# Altium footprint library GD_Power_Meter_Draft.PcbLib: 23 footprints (part 1 of 2)
Each footprint in its own frame and in the unit in brackets; x right, y up, seen from the top. Pads: shape width x height; smd on the part's side, far side on the other; paste and mask are expansions set on the pad; w line width, h text height; cw(c..) or ccw(c..) is an arc to the next point about the centre after c.
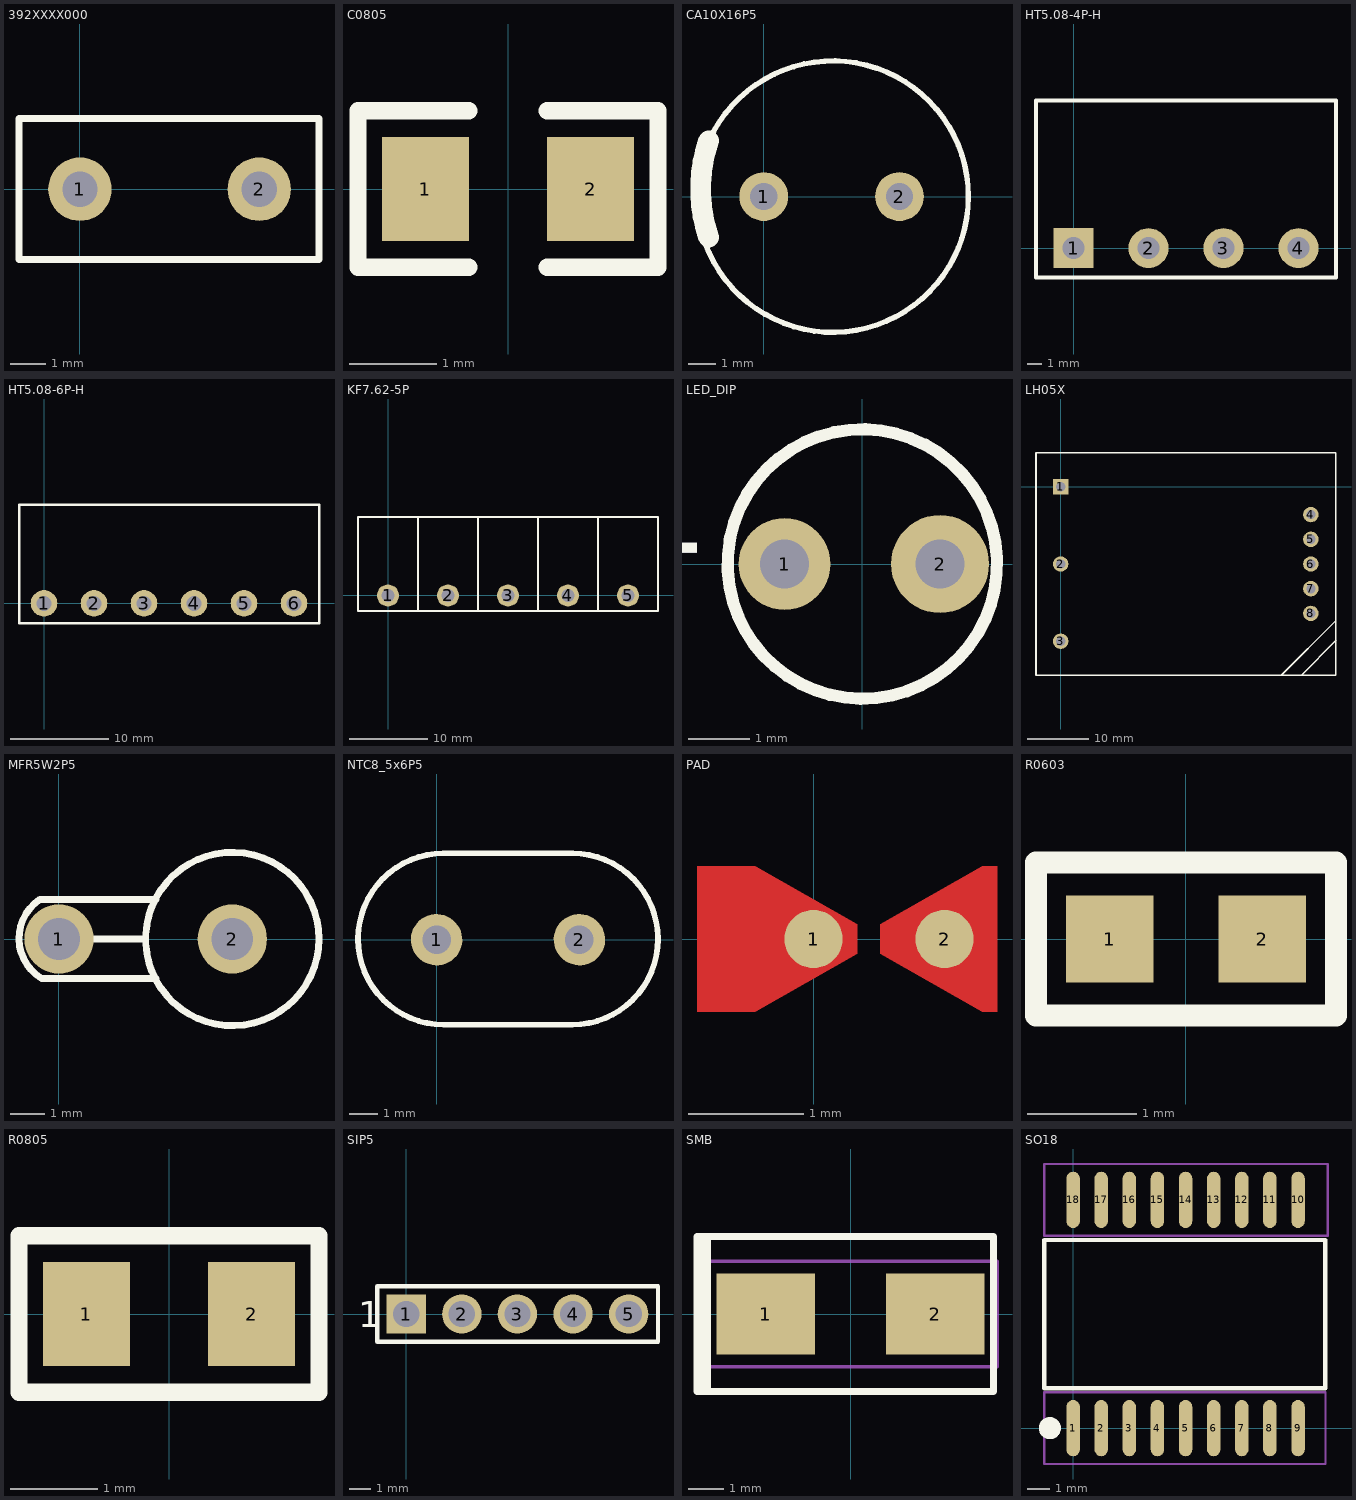
[diagram p0: the footprints below, top view; thin cyan lines are the x and y axes]

## 392XXXX000 [mm] "8.5X4X8"
height 8
pads (2):
  round 1.8 hole 1: 1(0,0) 2(5.08,0)
Top Overlay:
  lines w0.2: -1.727,-1.993 6.773,-1.993 6.773,2.007 -1.727,2.007 -1.727,-1.993
3D body: height 8, standoff 0, extent -1.727,-1.993 6.772,2.006

## C0805 [mm]
pads (2):
  rect 1x1.2 smd: 1(-0.95,0) 2(0.95,0)
Top Overlay:
  lines w0.2: -0.45,-0.9 -1.725,-0.9 -1.725,0.9 -0.45,0.9 ; 0.45,-0.9 1.725,-0.9 1.725,0.9 0.45,0.9
3D body: height 1, standoff 0, extent -1.552,-0.702 1.552,0.702

## CA10X16P5 [mm]
height 16
pads (2):
  round 1.8 hole 1: 1(0,0) 2(5,0)
Top Overlay:
  circle w0.2: c2.54,0 r5
  lines w0.762: -2.032,-1.499 cw(c3.132,0.279) -2.032,2.057
Bottom Solder:
  lines w1: -0.707,0.707 0,0 ; 4.98,0 5.687,-0.707
3D body: height 16, standoff 0, extent -2.47,-5.01 7.55,5.01

## HT5.08-4P-H [mm]
height 8
pads (4):
  rect 2.7x2.7 hole 1.5: 1(0,0)
  round 2.7 hole 1.5: 2(5.08,0) 3(10.16,0) 4(15.24,0)
Top Overlay:
  lines w0.254: -2.54,-2 17.78,-2 17.78,10 -2.54,10 -2.54,-2
3D body: height 12, standoff 0, extent -2.54,-2.032 17.78,10.033

## HT5.08-6P-H [mm]
height 12
pads (6):
  round 2.7 hole 1.5: 1(0,0) 2(5.08,0) 3(10.16,0) 4(15.24,0) 5(20.32,0) 6(25.4,0)
Top Overlay:
  lines w0.254: -2.54,-2 -2.54,10 27.94,10 27.94,-2 -2.54,-2
3D body: height 12, standoff 0, extent -2.54,-2.032 27.94,10.033

## KF7.62-5P [mm]
height 12.4
pads (5):
  round 2.8 hole 1.6: 1(0,0) 2(7.62,0) 3(15.24,0) 4(22.86,0) 5(30.48,0)
Top Overlay:
  lines w0.254: 3.81,-2 3.81,10 ; 11.43,-2 11.43,10 ; 19.05,-2 19.05,10 ; 26.67,-2 26.67,10 ; -3.81,-2 -3.81,10 34.29,10 34.29,-2 -3.81,-2
3D body: height 12.4, standoff 0, extent -3.683,-1.905 34.163,9.906

## LED_DIP [mm]
pads (2):
  round 1.5 hole 0.8: 1(-1.27,0)
  round 1.6 hole 0.8: 2(1.27,0)
Top Overlay:
  lines w0.2: -2.164,0.399 ccw(c0,0) -2.156,0.436
  text "+" at -2.7,-0.6 h1.5
3D body: height 5, standoff 0, extent -2.183,-2.196 2.2,2.196

## LH05X [mm]
height 20.5
pads (8):
  rect 2.5x2.5 hole 1.5: 1(0,0)
  round 2.5 hole 1.5: 2(0,-12.5) 3(0,-25) 4(40.5,-4.5) 5(40.5,-8.5) 6(40.5,-12.5) 7(40.5,-16.5) 8(40.5,-20.5)
Top Overlay:
  lines w0.254: 33.782,-30.5 35.717,-30.5 44.5,-21.717 ; 38.989,-30.5 44.563,-24.828 ; -4,-30.5 44.5,-30.5 44.5,5.5 -4,5.5 -4,-30.5
3D body: height 20.5, standoff 0, extent -3.937,-30.48 44.577,5.461

## MFR5W2P5 [mm]
pads (2):
  round 2 hole 1.2: 1(0,0) 2(5,0)
Top Overlay:
  circle w0.2: c5,0 r2.5
  lines w0.2: -0.511,-1.132 cw(c0.197,0.018) -0.549,1.143 2.794,1.143 ; -0.498,-1.143 2.794,-1.143 ; 0.762,0 2.5,0
3D body: height 15, standoff 0, extent -1.102,-1.102 6.102,1.102
3D body: height 15.5, standoff 0, extent 2.52,-2.49 7.5,2.5

## NTC8_5x6P5 [mm] "8_5x6P5x13"
height 13
pads (2):
  round 1.8 hole 1: 1(0,0) 2(5,0)
Top Overlay:
  lines w0.2: 0.237,3.025 ccw(c0.25,0.025) 0.25,-2.975 4.75,-2.975 ccw(c4.75,0.025) 4.763,3.025 ; 0.239,3.025 4.761,3.025
3D body: height 13, standoff 0, extent -2.9,-3.1 7.8,3.1

## PAD [mil] "SPARKGAP"
pads (2):
  round 20 smd: 1(0,0) 2(45,0)
Top Layer:
  region: 15,5 -20,25 -40,25 -40,-25 -20,-25 15,-5
  region: 23,-5 58,-25 63,-25 63,25 58,25 23,5
Top Solder:
  region: 15,5 -20,25 -40,25 -40,-25 -20,-25 15,-5
  region: 23,-5 58,-25 63,-25 63,25 58,25 23,5

## R0603 [mm]
pads (2):
  rect 0.8x0.8 smd: 1(-0.7,0) 2(0.7,0)
Top Overlay:
  lines w0.2: -1.375,-0.7 -1.375,0.7 1.375,0.7 1.375,-0.7 -1.375,-0.7

## R0805 [mm]
pads (2):
  rect 1x1.2 smd: 1(-0.95,0) 2(0.95,0)
Top Overlay:
  lines w0.2: -1.725,-0.9 -1.725,0.9 1.725,0.9 1.725,-0.9 -1.725,-0.9
3D body: height 1, standoff 0, extent -1.552,-0.702 1.552,0.702

## SIP5 [mm]
height 7
pads (5):
  rect 1.8x1.8 hole 1.2: 1(0,0)
  round 1.8 hole 1.2: 2(2.54,0) 3(5.08,0) 4(7.62,0) 5(10.16,0)
Top Overlay:
  lines w0.2: -1.321,-1.27 11.5,-1.27 11.5,1.27 -1.321,1.27 -1.321,-1.27
  text "1" at -2.2,-0.6 h1.2
Bottom Overlay:
  lines w0.4: 1.27,-0.925 1.27,0.875 ; 3.81,-0.925 3.81,0.875 ; 6.325,-0.94 6.325,0.86 ; 8.89,-0.925 8.89,0.875
3D body: height 7, standoff 0, extent -1.421,-1.37 11.6,1.37

## SMB [mm] "P6SMB"
height 2.5
pads (2):
  rect 2.8x2.3 smd: 1(-2.4,0) 2(2.4,0)
Top Overlay:
  region: -4,2.2 -4.35,2.2 -4.35,-2.2 -4,-2.2
  lines w0.2: -4.05,-2.2 -4.05,2.2 ; -4.35,-2.2 4.05,-2.2 4.05,2.2 -4.35,2.2 -4.35,-2.2
Mechanical 16:
  lines w0.1: -4.15,-1.5 4.15,-1.5 4.15,1.5 -4.15,1.5 -4.15,-1.5
3D body: height 2.5, standoff 0, extent -4.45,-2.3 4.15,2.3

## SO18 [mil]
height 102.36
pads (18):
  oval 24x100 smd: 1(0,0) 2(50,0) 3(100,0) 4(150,0) 5(200,0) 6(250,0) 7(300,0) 8(350,0) 9(400,0) 10(400,406) 11(350,406) 12(300,406) 13(250,406) 14(200,406) 15(150,406) 16(100,406) 17(50,406) 18(0,406)
Top Overlay:
  circle w19.68: c-41.34,0 r9.84
  lines w7.87: -51.18,70.87 -51.18,334.65 448.82,334.65 448.82,70.87 -51.18,70.87
Mechanical 16:
  lines w3.94: -51.18,-63.78 -51.18,63.78 448.82,63.78 448.82,-63.78 -51.18,-63.78 ; -51.18,342.22 452.76,342.22 452.76,469.78 -51.18,469.78 -51.18,342.22
3D body: height 102.36, standoff 0, extent -51.18,70.87 448.82,334.65